# Altium schematic symbol library Passive.SchLib: 30 symbols
Pins are listed as number, name and electrical type; pins without a type are passive.

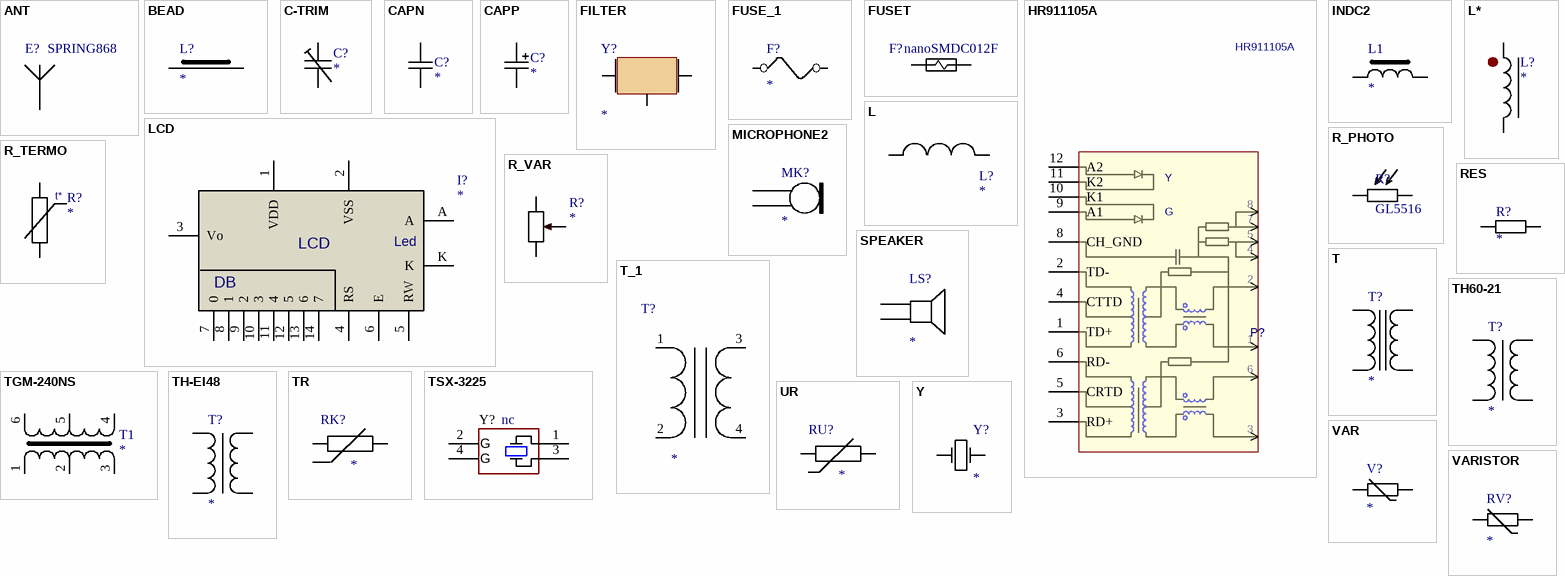
[diagram p0: symbols ANT to Y]

## ANT
designator E?, comment SPRING868
Примітки: Пряма; Вид: Антена
footprint ANT_H868_V (helical 868 MHz antenna)
pins: 1

## BEAD
designator L?
Вид: Ferrite bead
footprint L-1210
footprint L-0603 (Chip Inductor, 2-Leads, Body 1,60x0,80mm, IPC Medium Density)
footprint L-0402
pins: 1, 2

## C-TRIM
designator C?
C-TRIMMER; Вид: Конденсатор
footprint TZBX4P300AA110
pins: 1, 2

## CAPN
designator C?
Voltage: 50V; Точність/група: NP0; Вид: Конденсатор
footprint C-0603
footprint C-0805
footprint C-1206
footprint C-0402 (Chip Capacitor, 2-Leads, Body 1,00x0,50mm, IPC Medium Density)
footprint C-1210 (Chip Capacitor, 2-Leads, Body 3,20x2,50mm, IPC Medium Density)
footprint C-1812 (Chip Capacitor, 2-Leads, Body 4,50x3,20mm, IPC Medium Density)
pins: 1, 2

## CAPP
designator C?
Voltage: 16V; Вид: Конденсатор
footprint C_TANTAL_C (Capacitor, Polarized, Molded Body; 6.00 mm L X 3.25 mm W X 2.80 mm H body)
footprint C_TANTAL_D (Capacitor, Polarized, Molded Body; 7.30 mm L X 4.35 mm W X 3.10 mm H body)
footprint C_EL_6x12mm (Capacitor, Polarized, Radial (Electrolytic); 2.00 mm C X 6.00 mm Dia X 12.50 mm H body)
footprint C_EL_SMD_6x8mm (Capacitor, Aluminum Electrolytic; 6.60 mm L X 6.60 mm W X 8.00 mm H body)
footprint C_TANTAL_A (Capacitor, Polarized, Molded Body; 3.20 mm L X 1.65 mm W X 1.80 mm H body)
footprint C_TANTAL_B (Capacitor, Polarized, Molded Body; 3.50 mm L X 2.80 mm W X 2.10 mm H body)
footprint C_EL_8X11 (Capacitor, Polarized, Radial (Electrolytic); 2.50 mm C X 8.20 mm Dia X 11.50 mm H body)
footprint C_EL_5X11 (Capacitor, Polarized, Radial (Electrolytic); 2.00 mm C X 5.50 mm Dia X 11.50 mm H body)
pins: 1, 2

## FILTER
designator Y?
Фильтр; Вид: Фільтр
footprint SFECV10.7
footprint UM1-3
footprint UM1-3L
pins: 1 IN, 2 GND, 3 OUT

## FUSE_1
designator F?
Вид: Запобіжник
footprint MF-RX185
pins: 1, 2

## FUSET
designator F?, comment nanoSMDC012F
PolySwitch; Вид: Запобіжник
footprint R-1206
pins: 1, 2

## HR911105A
designator P?
Вид: Трансформатор
footprint HR911105A
pins: 1 TD+, 2 TD-, 3 RD+, 4 CTTD, 5 CRTD, 6 RD-, 7 hidden, 8 CH_GND, 9 A1, 10 K1, 11 K2, 12 A2, 13 hidden, 14 hidden, 15 hidden, 16 hidden
text: Y; G

## INDC2
designator L1
Вид: Індуктивність
footprint L-1206
footprint L-1210
footprint L-0402
footprint L-0603 (Chip Inductor, 2-Leads, Body 1,60x0,80mm, IPC Medium Density)
pins: 1, 2

## L
designator L?
Вид: Індуктивність
footprint L-0402
footprint L-0603 (Chip Inductor, 2-Leads, Body 1,60x0,80mm, IPC Medium Density)
footprint L-1210 (Chip Inductor, 2-Leads, Body 3,20x2,50mm, IPC Medium Density)
pins: 1, 2

## L*
designator L?
Вид: Індуктивність
footprint CDRH6D38 (Inductor, Molded Body; 6.50 mm L X 6.55 mm W X 4.00 mm H body)
footprint CDRH60D45 (Inductor, Molded Body; 6.20 mm L X 6.20 mm W X 4.80 mm H body)
footprint INDM600X600X600L225X600N (Inductor, Molded Body; 5.50 mm L X 6.00 mm W X 6.00 mm H body)
pins: 1, 2

## LCD
designator I?
LCD indication; Вид: Модуль
pins: 1 VDD, 2 VSS, 3 Vo, 4 RS, 5 RW, 6 E, 7 0, 8 1, 9 2, 10 3, 11 4, 12 5, 13 6, 14 7, A, K
text: Led; DB

## MICROPHONE2
designator MK?
Microphone; Вид: Мікрофон; *: *; Виробник: *
pins: 1, 2

## R_PHOTO
designator R?, comment GL5516
footprint GL55 (TO Cylindrical Style, 1.50 mm pitch; 2 pin, 5.20 mm W X 2.30 mm H body)
pins: 1, 2

## R_TERMO
designator R?
Точність/група: 5%; Вид: Резистор
footprint R-0603
footprint R-0805
footprint R-1206
footprint R-1210
footprint R-0402 (Chip Resistor, 2-Leads, Body 1,05x0,54mm, IPC Medium Density)
pins: 1, 2
text: t*

## R_VAR
designator R?
Точність/група: 5%; Вид: Резистор
footprint TRIM3318P
footprint PVZ3A
pins: 1, 2 ROT, 3

## RES
designator R?
Точність/група: 5%; Вид: Резистор
footprint R-0603
footprint R-0805
footprint R-1206
footprint R-0402 (Chip Resistor, 2-Leads, Body 1,05x0,54mm, IPC Medium Density)
footprint R-1210 (Chip Resistor, 2-Leads, Body 3,20x2,49mm, IPC Medium Density)
pins: 1, 2

## SPEAKER
designator LS?
Вид: Динамік; *: *; Виробник: *
pins: 1, 2

## T
designator T?
Вид: Трансформатор
footprint TOR
pins: 1 IN1, 2 OUT1, 3 IN2, 4 OUT2

## T_1
designator T?
Вид: Трансформатор
pins: 1, 2, 3, 4

## TGM-240NS
designator T1
Вид: Трансформатор
footprint NS package
pins: 1, 2, 3, 4, 5, 6

## TH60-21
designator T?
Вид: Трансформатор
footprint TH60-21
pins: 2 IN1, 6 IN2, 12 OUT2, 14 OUT1

## TH-EI48
designator T?
Transformator; Вид: Трансформатор
footprint TH-EI48
footprint TH-EI48-051230
pins: 2 IN1, 4 IN2, 8 OUT2, 11 OUT1

## TR
designator RK?
Вид: Трансформатор
pins: 1, 2

## TSX-3225
designator Y?, comment nc
Crystal, 24 MHz, 9 pF, SMD; Вид: Трансформатор
footprint KX-7(3225) (SMD, 4-Leads, Body 2.65x3.35mm, Height 0.6mm)
pins: 1, 2 GND (power), 3, 4 GND (power)
text: G

## UR
designator RU?
Вид: Варистор
pins: 1, 2

## VAR
designator V?
Вид: Варистор
pins: 1, 2

## VARISTOR
designator RV?
Вид: Варистор
footprint VCR-05D
pins: 1, 2

## Y
designator Y?
Точність/група: 20ppm; Вид: Кварц
footprint HC49_3.5mm (Crystal, HC-49; 4.88 mm C X 0.43 mm W 11.175 mm L X 4.75 mm T X 3.50 mm H body)
footprint KX26 (clock crystal, 2*6 mm)
pins: 1, 2